# EAGLE library part SH7203 (library renesas)
Renesas 32-Bit RISC Microcomputer SuperH (TM) RISC engine Family SH7200 Series Auto generated by make-symbol-device-package-bsdl.ulp Rev. 27 Source: rej09b0313_sh7203hm.pdf; sh7203_pin_arrangement.pdf
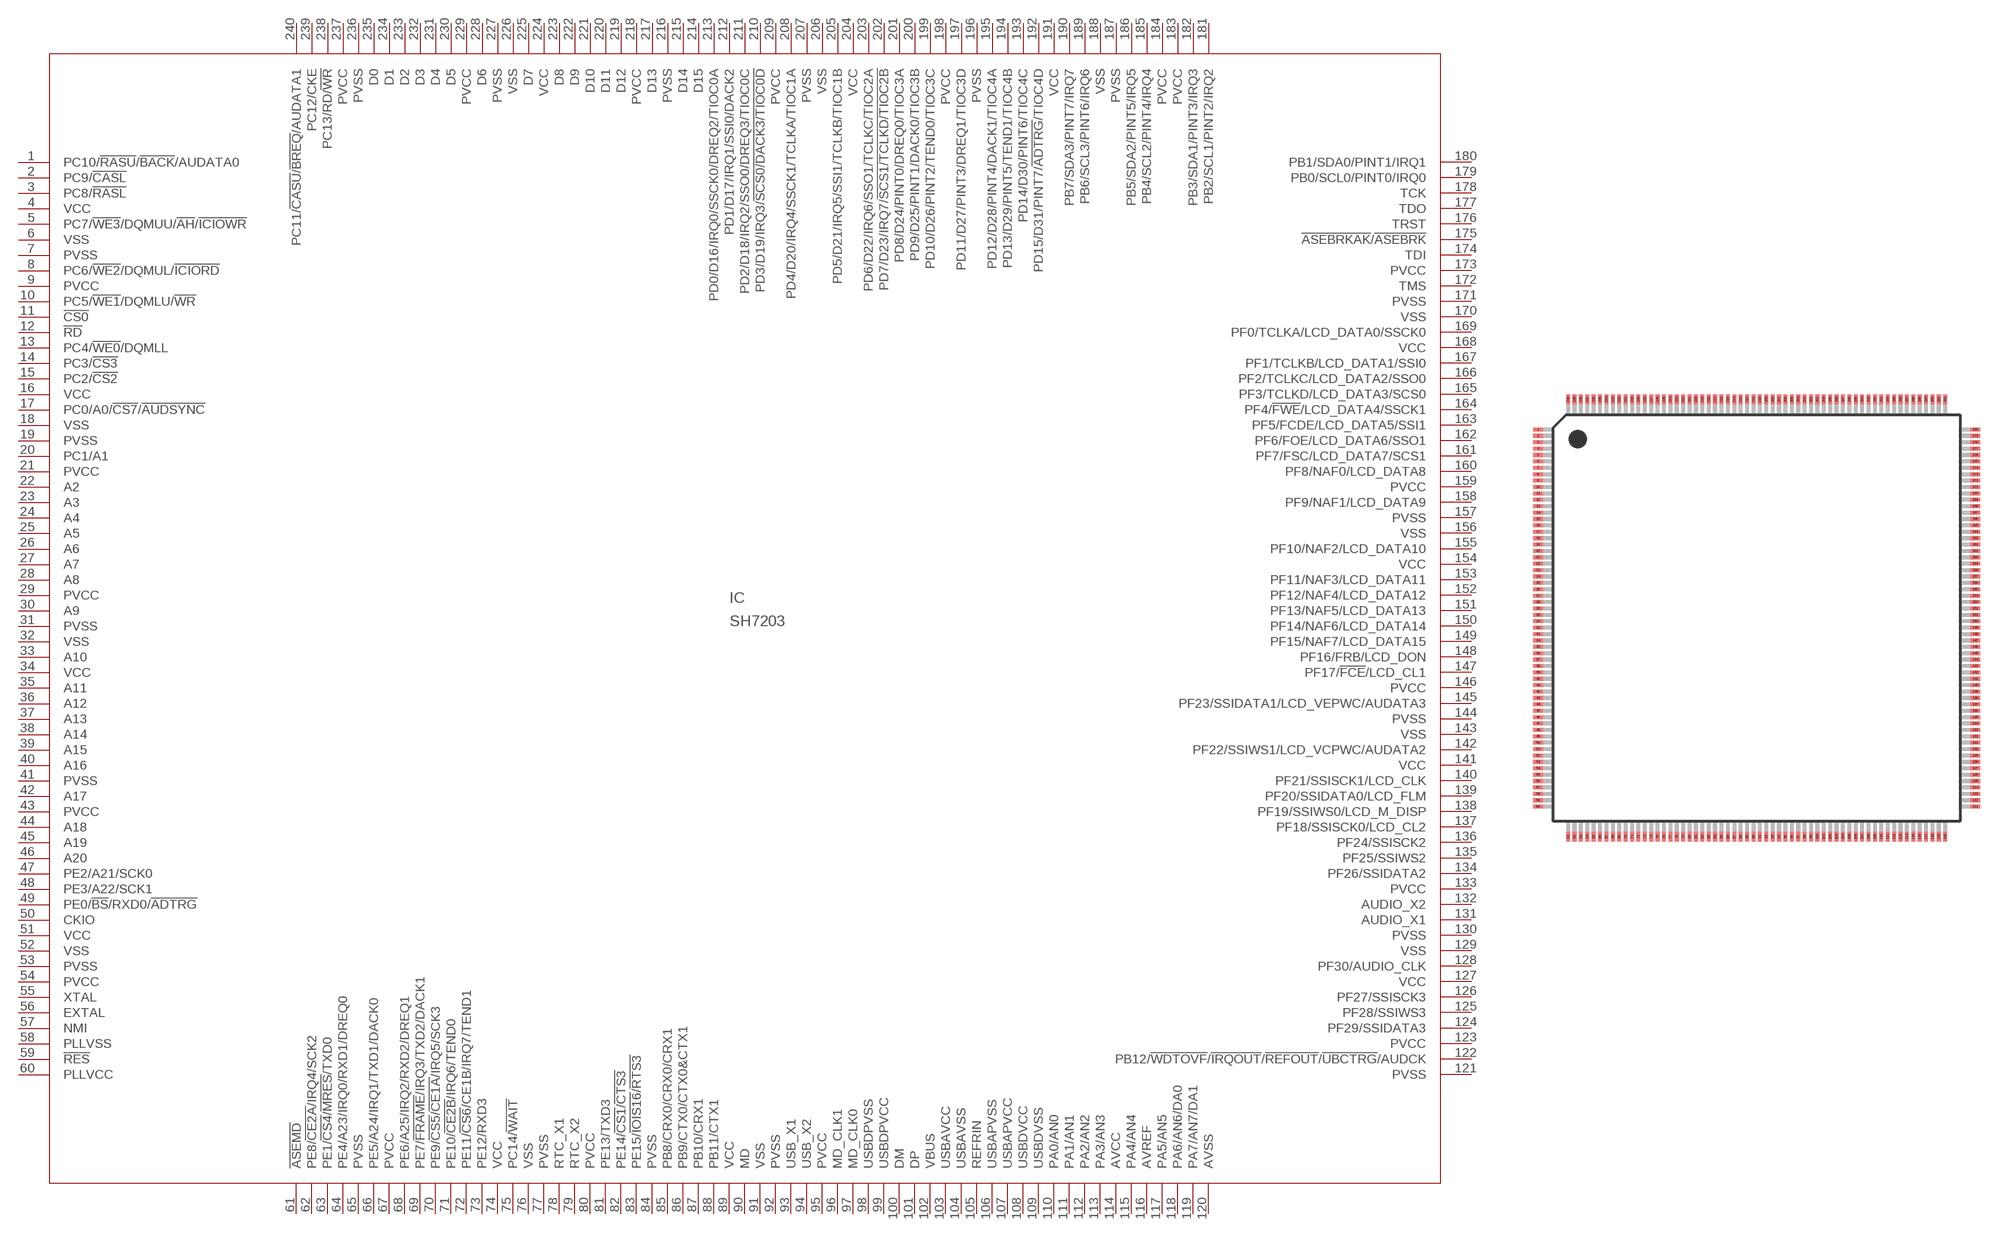
[diagram p0: symbol with the pads of QFP3232-240CU; footprint QFP3232-240CU]

Designator prefix IC

## SH7203 (MPN: DS72030W200FPV; OC_FARNELL: 1677756; OC_NEWARK: 40P2895)  [QFP3232-240CU]
1  PC10/!RASU!/!BACK!/AUDATA0
2  PC9/!CASL
3  PC8/!RASL
4  VCC  pwr
5  PC7/!WE3!/DQMUU/!AH!/!ICIOWR
6  VSS  pwr
7  PVSS  pwr
8  PC6/!WE2!/DQMUL/!ICIORD
9  PVCC  pwr
10  PC5/!WE1!/DQMLU/!WR
11  !CS0  out
12  !RD  out
13  PC4/!WE0!/DQMLL
14  PC3/!CS3
15  PC2/!CS2
16  VCC  pwr
17  PC0/A0/!CS7!/!AUDSYNC
18  VSS  pwr
19  PVSS  pwr
20  PC1/A1
21  PVCC  pwr
22  A2  out
23  A3  out
24  A4  out
25  A5  out
26  A6  out
27  A7  out
28  A8  out
29  PVCC  pwr
30  A9  out
31  PVSS  pwr
32  VSS  pwr
33  A10  out
34  VCC  pwr
35  A11  out
36  A12  out
37  A13  out
38  A14  out
39  A15  out
40  A16  out
41  PVSS  pwr
42  A17  out
43  PVCC  pwr
44  A18  out
45  A19  out
46  A20  out
47  PE2/A21/SCK0
48  PE3/A22/SCK1
49  PE0/!BS!/RXD0/!ADTRG
50  CKIO
51  VCC  pwr
52  VSS  pwr
53  PVSS  pwr
54  PVCC  pwr
55  XTAL  out
56  EXTAL  in
57  NMI  in
58  PLLVSS  pwr
59  !RES  in
60  PLLVCC  pwr
61  !ASEMD  in
62  PE8/!CE2A!/IRQ4/SCK2
63  PE1/!CS4!/!MRES!/TXD0
64  PE4/A23/IRQ0/RXD1/DREQ0
65  PVSS  pwr
66  PE5/A24/IRQ1/TXD1/DACK0
67  PVCC  pwr
68  PE6/A25/IRQ2/RXD2/DREQ1
69  PE7/!FRAME!/IRQ3/TXD2/DACK1
70  PE9/!CS5!/!CE1A!/IRQ5/SCK3
71  PE10/!CE2B!/IRQ6/TEND0
72  PE11/!CS6!/CE1B/IRQ7/TEND1
73  PE12/RXD3
74  VCC  pwr
75  PC14/!WAIT
76  VSS  pwr
77  PVSS  pwr
78  RTC_X1  in
79  RTC_X2  out
80  PVCC  pwr
81  PE13/TXD3
82  PE14/!CS1!/!CTS3
83  PE15/!IOIS16!/!RTS3
84  PVSS  pwr
85  PB8/CRX0/CRX0/CRX1
86  PB9/CTX0/CTX0&CTX1
87  PB10/CRX1
88  PB11/CTX1
89  VCC  pwr
90  MD  in
91  VSS  pwr
92  PVSS  pwr
93  USB_X1  in
94  USB_X2  out
95  PVCC  pwr
96  MD_CLK1  in
97  MD_CLK0  in
98  USBDPVSS  pwr
99  USBDPVCC  pwr
100  DM
101  DP
102  VBUS  in
103  USBAVCC  pwr
104  USBAVSS  pwr
105  REFRIN  in
106  USBAPVSS  pwr
107  USBAPVCC  pwr
108  USBDVCC  pwr
109  USBDVSS  pwr
110  PA0/AN0  in
111  PA1/AN1  in
112  PA2/AN2  in
113  PA3/AN3  in
114  AVCC  pwr
115  PA4/AN4  in
116  AVREF  in
117  PA5/AN5  in
118  PA6/AN6/DA0
119  PA7/AN7/DA1
120  AVSS  pwr
121  PVSS  pwr
122  PB12/!WDTOVF!/!IRQOUT!/!REFOUT!/!UBCTRG!/AUDCK  out
123  PVCC  pwr
124  PF29/SSIDATA3
125  PF28/SSIWS3
126  PF27/SSISCK3
127  VCC  pwr
128  PF30/AUDIO_CLK
129  VSS  pwr
130  PVSS  pwr
131  AUDIO_X1  in
132  AUDIO_X2  out
133  PVCC  pwr
134  PF26/SSIDATA2
135  PF25/SSIWS2
136  PF24/SSISCK2
137  PF18/SSISCK0/LCD_CL2
138  PF19/SSIWS0/LCD_M_DISP
139  PF20/SSIDATA0/LCD_FLM
140  PF21/SSISCK1/LCD_CLK
141  VCC  pwr
142  PF22/SSIWS1/LCD_VCPWC/AUDATA2
143  VSS  pwr
144  PVSS  pwr
145  PF23/SSIDATA1/LCD_VEPWC/AUDATA3
146  PVCC  pwr
147  PF17/!FCE!/LCD_CL1
148  PF16/FRB/LCD_DON
149  PF15/NAF7/LCD_DATA15
150  PF14/NAF6/LCD_DATA14
151  PF13/NAF5/LCD_DATA13
152  PF12/NAF4/LCD_DATA12
153  PF11/NAF3/LCD_DATA11
154  VCC  pwr
155  PF10/NAF2/LCD_DATA10
156  VSS  pwr
157  PVSS  pwr
158  PF9/NAF1/LCD_DATA9
159  PVCC  pwr
160  PF8/NAF0/LCD_DATA8
161  PF7/FSC/LCD_DATA7/SCS1
162  PF6/FOE/LCD_DATA6/SSO1
163  PF5/FCDE/LCD_DATA5/SSI1
164  PF4/!FWE!/LCD_DATA4/SSCK1
165  PF3/TCLKD/LCD_DATA3/SCS0
166  PF2/TCLKC/LCD_DATA2/SSO0
167  PF1/TCLKB/LCD_DATA1/SSI0
168  VCC  pwr
169  PF0/TCLKA/LCD_DATA0/SSCK0
170  VSS  pwr
171  PVSS  pwr
172  TMS  in
173  PVCC  pwr
174  TDI  in
175  !ASEBRKAK!/!ASEBRK
176  TRST  in
177  TDO  out
178  TCK  in
179  PB0/SCL0/PINT0/IRQ0
180  PB1/SDA0/PINT1/IRQ1
181  PB2/SCL1/PINT2/IRQ2
182  PB3/SDA1/PINT3/IRQ3
183  PVCC  pwr
184  PVCC  pwr
185  PB4/SCL2/PINT4/IRQ4
186  PB5/SDA2/PINT5/IRQ5
187  PVSS  pwr
188  VSS  pwr
189  PB6/SCL3/PINT6/IRQ6
190  PB7/SDA3/PINT7/IRQ7
191  VCC  pwr
192  PD15/D31/PINT7/!ADTRG!/TIOC4D
193  PD14/D30/PINT6/TIOC4C
194  PD13/D29/PINT5/TEND1/TIOC4B
195  PD12/D28/PINT4/DACK1/TIOC4A
196  PVSS  pwr
197  PD11/D27/PINT3/DREQ1/TIOC3D
198  PVCC  pwr
199  PD10/D26/PINT2/TEND0/TIOC3C
200  PD9/D25/PINT1/DACK0/TIOC3B
201  PD8/D24/PINT0/DREQ0/TIOC3A
202  PD7/D23/IRQ7/!SCS1/TCLKD/TIOC2B
203  PD6/D22/IRQ6/SSO1/TCLKC/TIOC2A
204  VCC  pwr
205  PD5/D21/IRQ5/SSI1/TCLKB/TIOC1B
206  VSS  pwr
207  PVSS  pwr
208  PD4/D20/IRQ4/SSCK1/TCLKA/TIOC1A
209  PVCC  pwr
210  PD3/D19/IRQ3/!SCS0/DACK3/TIOC0D
211  PD2/D18/IRQ2/SSO0/DREQ3/TIOC0C
212  PD1/D17/IRQ1/SSI0/DACK2  out
213  PD0/D16/IRQ0/SSCK0/DREQ2/TIOC0A
214  D15
215  D14
216  PVSS  pwr
217  D13
218  PVCC  pwr
219  D12
220  D11
221  D10
222  D9
223  D8
224  VCC  pwr
225  D7
226  VSS  pwr
227  PVSS  pwr
228  D6
229  PVCC  pwr
230  D5
231  D4
232  D3
233  D2
234  D1
235  D0
236  PVSS  pwr
237  PVCC  pwr
238  PC13/RD/!WR
239  PC12/CKE
240  PC11/!CASU!/!BREQ!/AUDATA1

## Footprint QFP3232-240CU (pad centres in mm)
JEITA Package Code P-QFP240-32x32-0.50 Source: http://america.renesas.com .. prqp0240ka_a.pdf
smd 0.8 x 0.3: 1 -17.1,14.75; 2 -17.1,14.25; 3 -17.1,13.75; 4 -17.1,13.25; 5 -17.1,12.75; 6 -17.1,12.25; 7 -17.1,11.75; 8 -17.1,11.25; 9 -17.1,10.75; 10 -17.1,10.25; 11 -17.1,9.75; 12 -17.1,9.25; 13 -17.1,8.75; 14 -17.1,8.25; 15 -17.1,7.75; 16 -17.1,7.25; 17 -17.1,6.75; 18 -17.1,6.25; 19 -17.1,5.75; 20 -17.1,5.25; 21 -17.1,4.75; 22 -17.1,4.25; 23 -17.1,3.75; 24 -17.1,3.25; 25 -17.1,2.75; 26 -17.1,2.25; 27 -17.1,1.75; 28 -17.1,1.25; 29 -17.1,0.75; 30 -17.1,0.25; 31 -17.1,-0.25; 32 -17.1,-0.75; 33 -17.1,-1.25; 34 -17.1,-1.75; 35 -17.1,-2.25; 36 -17.1,-2.75; 37 -17.1,-3.25; 38 -17.1,-3.75; 39 -17.1,-4.25; 40 -17.1,-4.75; 41 -17.1,-5.25; 42 -17.1,-5.75; 43 -17.1,-6.25; 44 -17.1,-6.75; 45 -17.1,-7.25; 46 -17.1,-7.75; 47 -17.1,-8.25; 48 -17.1,-8.75; 49 -17.1,-9.25; 50 -17.1,-9.75; 51 -17.1,-10.25; 52 -17.1,-10.75; 53 -17.1,-11.25; 54 -17.1,-11.75; 55 -17.1,-12.25; 56 -17.1,-12.75; 57 -17.1,-13.25; 58 -17.1,-13.75; 59 -17.1,-14.25; 60 -17.1,-14.75; 121 17.1,-14.75; 122 17.1,-14.25; 123 17.1,-13.75; 124 17.1,-13.25; 125 17.1,-12.75; 126 17.1,-12.25; 127 17.1,-11.75; 128 17.1,-11.25; 129 17.1,-10.75; 130 17.1,-10.25; 131 17.1,-9.75; 132 17.1,-9.25; 133 17.1,-8.75; 134 17.1,-8.25; 135 17.1,-7.75; 136 17.1,-7.25; 137 17.1,-6.75; 138 17.1,-6.25; 139 17.1,-5.75; 140 17.1,-5.25; 141 17.1,-4.75; 142 17.1,-4.25; 143 17.1,-3.75; 144 17.1,-3.25; 145 17.1,-2.75; 146 17.1,-2.25; 147 17.1,-1.75; 148 17.1,-1.25; 149 17.1,-0.75; 150 17.1,-0.25; 151 17.1,0.25; 152 17.1,0.75; 153 17.1,1.25; 154 17.1,1.75; 155 17.1,2.25; 156 17.1,2.75; 157 17.1,3.25; 158 17.1,3.75; 159 17.1,4.25; 160 17.1,4.75; 161 17.1,5.25; 162 17.1,5.75; 163 17.1,6.25; 164 17.1,6.75; 165 17.1,7.25; 166 17.1,7.75; 167 17.1,8.25; 168 17.1,8.75; 169 17.1,9.25; 170 17.1,9.75; 171 17.1,10.25; 172 17.1,10.75; 173 17.1,11.25; 174 17.1,11.75; 175 17.1,12.25; 176 17.1,12.75; 177 17.1,13.25; 178 17.1,13.75; 179 17.1,14.25; 180 17.1,14.75
smd 0.3 x 0.8: 61 -14.75,-17.1; 62 -14.25,-17.1; 63 -13.75,-17.1; 64 -13.25,-17.1; 65 -12.75,-17.1; 66 -12.25,-17.1; 67 -11.75,-17.1; 68 -11.25,-17.1; 69 -10.75,-17.1; 70 -10.25,-17.1; 71 -9.75,-17.1; 72 -9.25,-17.1; 73 -8.75,-17.1; 74 -8.25,-17.1; 75 -7.75,-17.1; 76 -7.25,-17.1; 77 -6.75,-17.1; 78 -6.25,-17.1; 79 -5.75,-17.1; 80 -5.25,-17.1; 81 -4.75,-17.1; 82 -4.25,-17.1; 83 -3.75,-17.1; 84 -3.25,-17.1; 85 -2.75,-17.1; 86 -2.25,-17.1; 87 -1.75,-17.1; 88 -1.25,-17.1; 89 -0.75,-17.1; 90 -0.25,-17.1; 91 0.25,-17.1; 92 0.75,-17.1; 93 1.25,-17.1; 94 1.75,-17.1; 95 2.25,-17.1; 96 2.75,-17.1; 97 3.25,-17.1; 98 3.75,-17.1; 99 4.25,-17.1; 100 4.75,-17.1; 101 5.25,-17.1; 102 5.75,-17.1; 103 6.25,-17.1; 104 6.75,-17.1; 105 7.25,-17.1; 106 7.75,-17.1; 107 8.25,-17.1; 108 8.75,-17.1; 109 9.25,-17.1; 110 9.75,-17.1; 111 10.25,-17.1; 112 10.75,-17.1; 113 11.25,-17.1; 114 11.75,-17.1; 115 12.25,-17.1; 116 12.75,-17.1; 117 13.25,-17.1; 118 13.75,-17.1; 119 14.25,-17.1; 120 14.75,-17.1; 181 14.75,17.1; 182 14.25,17.1; 183 13.75,17.1; 184 13.25,17.1; 185 12.75,17.1; 186 12.25,17.1; 187 11.75,17.1; 188 11.25,17.1; 189 10.75,17.1; 190 10.25,17.1; 191 9.75,17.1; 192 9.25,17.1; 193 8.75,17.1; 194 8.25,17.1; 195 7.75,17.1; 196 7.25,17.1; 197 6.75,17.1; 198 6.25,17.1; 199 5.75,17.1; 200 5.25,17.1; 201 4.75,17.1; 202 4.25,17.1; 203 3.75,17.1; 204 3.25,17.1; 205 2.75,17.1; 206 2.25,17.1; 207 1.75,17.1; 208 1.25,17.1; 209 0.75,17.1; 210 0.25,17.1; 211 -0.25,17.1; 212 -0.75,17.1; 213 -1.25,17.1; 214 -1.75,17.1; 215 -2.25,17.1; 216 -2.75,17.1; 217 -3.25,17.1; 218 -3.75,17.1; 219 -4.25,17.1; 220 -4.75,17.1; 221 -5.25,17.1; 222 -5.75,17.1; 223 -6.25,17.1; 224 -6.75,17.1; 225 -7.25,17.1; 226 -7.75,17.1; 227 -8.25,17.1; 228 -8.75,17.1; 229 -9.25,17.1; 230 -9.75,17.1; 231 -10.25,17.1; 232 -10.75,17.1; 233 -11.25,17.1; 234 -11.75,17.1; 235 -12.25,17.1; 236 -12.75,17.1; 237 -13.25,17.1; 238 -13.75,17.1; 239 -14.25,17.1; 240 -14.75,17.1